# Altium footprint library MainPcblib.PcbLib: 316 footprints (part 18 of 20)
Each footprint in its own frame and in the unit in brackets; x right, y up, seen from the top. Pads: shape width x height; smd on the part's side, far side on the other; paste and mask are expansions set on the pad; w line width, h text height; cw(c..) or ccw(c..) is an arc to the next point about the centre after c.
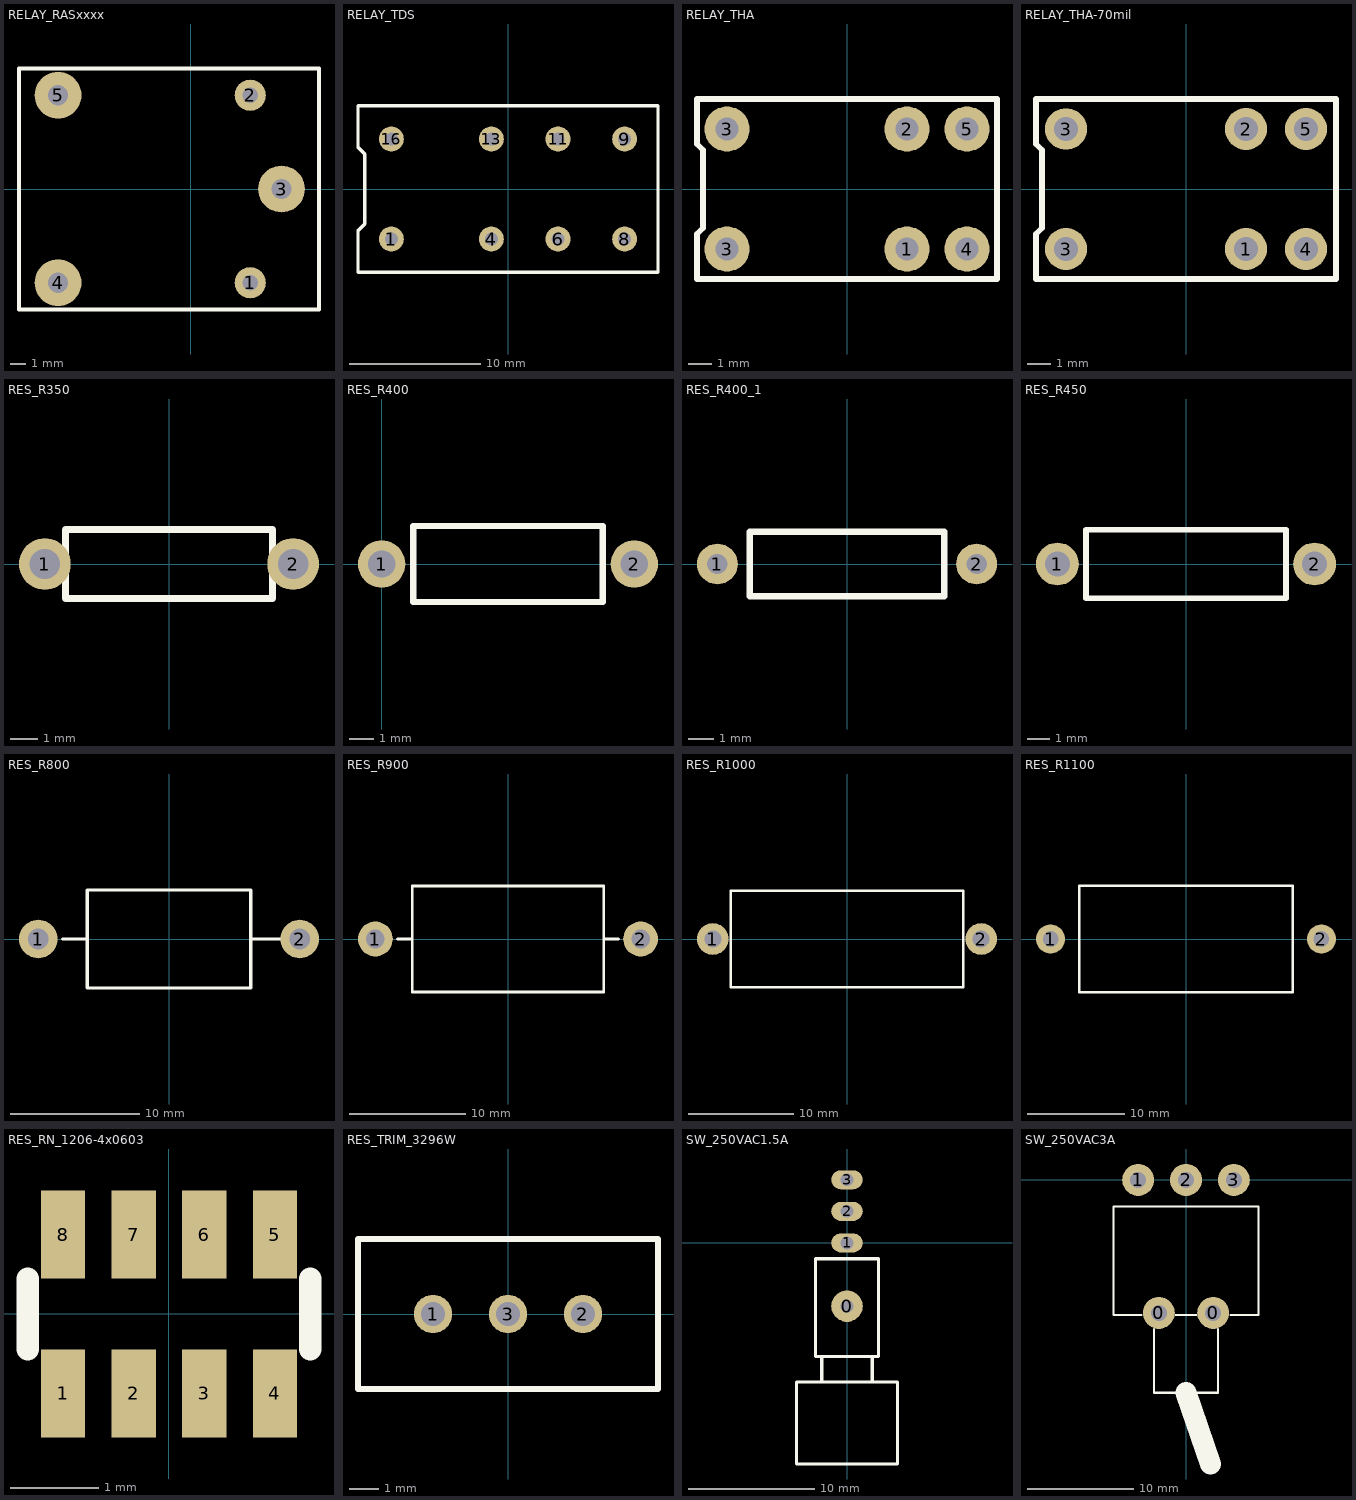
[diagram p17: the footprints below, top view; thin cyan lines are the x and y axes]

## RELAY_RASxxxx [mm] "Relay RAS-xx-xx"
height 15
pads (5):
  round 2 hole 1: 1(3.8,-6) 2(3.8,6)
  round 3 hole 1.3: 3(5.8,0) 4(-8.5,-6) 5(-8.5,6)
Top Overlay:
  lines w0.254: -11,-7.7 8.2,-7.7 8.2,7.7 -11,7.7 -11,-7.7

## RELAY_TDS [mil] "TDS relays - SunHold"
height 472.44
pads (8):
  round 75 hole 39: 1(-350,-150) 4(-50,-150) 6(150,-150) 8(350,-150) 9(350,150) 11(150,150) 13(-50,150) 16(-350,150)
Top Overlay:
  lines w10: -450,-250 450,-250 450,250 -450,250 -450,125 -430,105 -430,-105 -450,-125 -450,-250

## RELAY_THA [mil] "THA relays - SunHold"
height 393.7
pads (6):
  round 75 hole 39: 1(100,-100) 2(100,100) 3(-200,-100) 3(-200,100) 4(200,-100) 5(200,100)
Top Overlay:
  lines w10: -250,-150 -250,-75 -240,-65 -240,65 -250,75 -250,150 250,150 250,-150 -250,-150

## RELAY_THA-70mil [mil] "THA relays - SunHold - 70 mil pads"
height 393.7
pads (6):
  round 70 hole 39.37: 1(100,-100) 2(100,100) 3(-200,-100) 4(200,-100) 5(200,100)
  oval 70x68.9 hole 39.37: 3(-200,100)
Top Overlay:
  lines w10: -250,-150 -250,-75 -240,-65 -240,65 -250,75 -250,150 250,150 250,-150 -250,-150

## RES_R350 [mil] "PTH resistor"
height 78.74
pads (2):
  round 75 hole 44: 1(-180,0) 2(180,0)
Top Overlay:
  lines w10: -150,-50 150,-50 150,50 -150,50 -150,-50

## RES_R400 [mm]
pads (2):
  round 1.9 hole 1.1: 1(0,0) 2(10.16,0)
Top Overlay:
  lines w0.254: 1.27,-1.524 8.89,-1.524 8.89,1.524 1.27,1.524 1.27,-1.524

## RES_R400_1 [mm]
pads (2):
  round 1.6 hole 0.8: 1(-5.08,0) 2(5.08,0)
Top Overlay:
  lines w0.254: -3.81,-1.27 -3.81,1.27 3.81,1.27 3.81,-1.27 -3.81,-1.27

## RES_R450 [mil]
pads (2):
  round 75 hole 44: 1(-225,0) 2(225,0)
Top Overlay:
  lines w10: -175,-60 175,-60 175,60 -175,60 -175,-60

## RES_R800 [mm]
pads (2):
  round 3 hole 1.6: 1(-10.16,0) 2(10.16,0)
Top Overlay:
  lines w0.254: -8.255,0 -6.35,0 ; 6.35,0 10.16,0 ; -6.35,0 -6.35,-3.81 6.35,-3.81 6.35,3.81 -6.35,3.81 -6.35,0

## RES_R900 [mm] "for PRW05W - 5W resistor"
height 9
pads (2):
  round 3 hole 1.6: 1(-11.43,0) 2(11.43,0)
Top Overlay:
  lines w0.254: -9.525,0 -8.255,0 ; 8.255,0 9.525,0 ; -8.255,0 -8.255,4.572 8.255,4.572 8.255,-4.572 -8.255,-4.572 -8.255,0

## RES_R1000 [mm] "for PRW05W - 5W resistor"
height 9
pads (2):
  round 3 hole 1.6: 1(-12.7,0) 2(12.7,0)
Top Overlay:
  lines w0.254: -11,-4.572 -11,0 -11,4.572 11,4.572 11,-4.572 -11,-4.572

## RES_R1100 [mm] "for WELWYN - SQP7S"
height 11
pads (2):
  round 3 hole 1.6: 1(-13.97,0) 2(13.97,0)
Top Overlay:
  lines w0.254: -11,-5.5 -11,5.5 11,5.5 11,-5.5 -11,-5.5

## RES_RN_1206-4x0603 [mm]
pads (8):
  rect 0.5x1 smd: 1(-1.2,-0.9) 2(-0.4,-0.9) 3(0.4,-0.9) 4(1.2,-0.9) 5(1.2,0.9) 6(0.4,0.9) 7(-0.4,0.9) 8(-1.2,0.9)
Top Overlay:
  lines w0.254: -1.6,-0.4 -1.6,0.4 ; 1.6,-0.4 1.6,0.4

## RES_TRIM_3296W [mm] "Bourns 3296W"
height 10
pads (3):
  round 1.3 hole 0.8: 1(-2.54,0) 2(2.54,0) 3(0,0)
Top Overlay:
  lines w0.2: -5.08,-2.54 5.08,-2.54 5.08,2.54 -5.08,2.54 -5.08,-2.54

## SW_250VAC1.5A [mm]
height 9
pads (4):
  round 2.5 hole 1: 0(0,-5)
  oval 2.5x1.5 hole 1: 1(0,0) 2(0,2.5) 3(0,5)
Top Overlay:
  lines w0.254: -2,-9 -2,-11 ; 2,-9 2,-11 ; -2,-11 -4,-11 -4,-17.5 4,-17.5 4,-11 2,-11 ; -2,-11 2,-11 ; -2.5,-9 2.5,-9 2.5,-1.25 -2.5,-1.25 -2.5,-9

## SW_250VAC3A [mm]
height 9
pads (5):
  round 3 hole 1.5: 0(-2.55,-12.5) 0(2.55,-12.5) 1(-4.5,0) 2(0,0) 3(4.5,0)
Top Overlay:
  lines w0.2: -4.2,-12.7 -6.8,-12.7 -6.8,-2.5 6.8,-2.5 6.8,-12.6 6.8,-12.7 4.2,-12.7 ; -3,-14 -3,-20 3,-20 3,-14 ; -1,-12.7 1,-12.7
  lines w2: 0,-20 2.3,-26.7